# Altium footprint library Wuerth.PcbLib: 2 footprints
Each footprint in its own frame and in the unit in brackets; x right, y up, seen from the top. Pads: shape width x height; smd on the part's side, far side on the other; paste and mask are expansions set on the pad; w line width, h text height; cw(c..) or ccw(c..) is an arc to the next point about the centre after c.
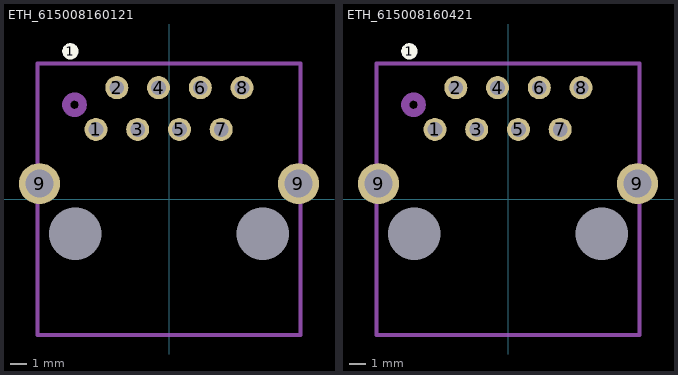
[diagram p0: the footprints below, top view; thin cyan lines are the x and y axes]

## ETH_615008160121 [mm]
pads (13):
  round 1 on Top Overlay: 1(-6,9)
  round 1.4 hole 0.9: 1(-4.445,4.25) 2(-3.175,6.79) 3(-1.905,4.25) 4(-0.635,6.79) 5(0.635,4.25) 6(1.905,6.79) 7(3.175,4.25) 8(4.445,6.79)
  round 2.5 hole 1.7: 9(-7.875,0.95) 9(7.875,0.95)
  round 0 hole 3.2: ""(-5.715,-2.1) ""(5.715,-2.1)
Top Assembly:
  circle w0.5: c-5.75,5.75 r0.5
  lines w0.254: -8,-8.25 8,-8.25 8,8.25 -8,8.25 -8,-8.25
3D body "WUERTH_615008160121.stp": height 16.4, standoff -3.3, extent -8,-8.25 8,8.25

## ETH_615008160421 [mm]
pads (13):
  round 1 on Top Overlay: 1(-6,9)
  round 1.4 hole 0.9: 1(-4.445,4.25) 2(-3.175,6.79) 3(-1.905,4.25) 4(-0.635,6.79) 5(0.635,4.25) 6(1.905,6.79) 7(3.175,4.25) 8(4.445,6.79)
  round 2.5 hole 1.7: 9(-7.875,0.95) 9(7.875,0.95)
  round 0 hole 3.2: ""(-5.715,-2.1) ""(5.715,-2.1)
Top Assembly:
  circle w0.5: c-5.75,5.75 r0.5
  lines w0.254: -8,-8.25 8,-8.25 8,8.25 -8,8.25 -8,-8.25
3D body "WUERTH_615008160421.stp": height 16.4, standoff -3.3, extent -8,-8.25 8,8.25